# Altium schematic symbol library tobre-schematics.SchLib: 5 symbols
Pins are listed as number, name and electrical type; pins without a type are passive.

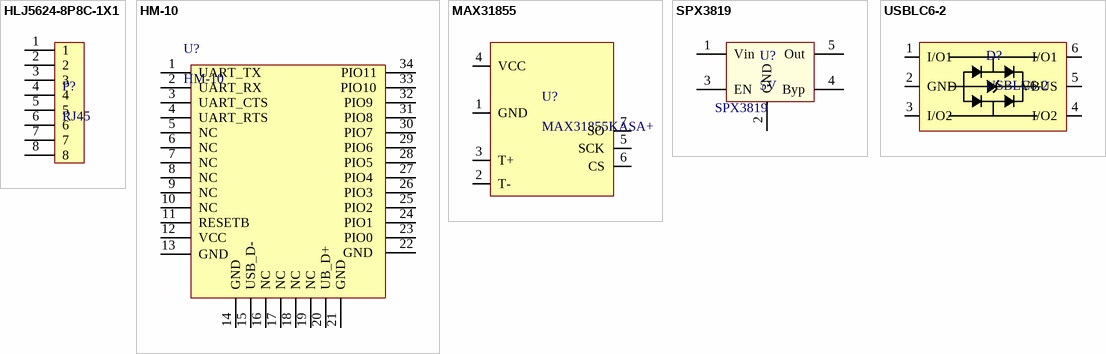
[diagram p0: symbols HLJ5624-8P8C-1X1 to USBLC6-2]

## HLJ5624-8P8C-1X1
designator P?, comment RJ45
URL: http://www.huilyn.com/detail_289_1051.html
footprint HLJ5624-8P8C-1X1 (RJ45 Modular Jack 8P8C)
pins: 1, 2, 3, 4, 5, 6, 7, 8

## HM-10
designator U?
footprint Bluetooth module (HC-XX, HM-XX)
pins: 1 UART_TX  "UART interface", 2 UART_RX  "UART interface", 3 UART_CTS  "UART interface", 4 UART_RTS  "UART interface", 5 NC  "NC", 6 NC  "NC", 7 NC  "NC", 8 NC  "NC", 9 NC  "NC", 10 NC  "NC", 11 RESETB  "Reset if low >100ms.", 12 VCC  "3.3V", 13 GND  "Ground", 14 GND  "Ground", 15 USB_D-  "USB interface", 16 NC  "NC", 17 NC  "NC", 18 NC  "NC", 19 NC  "NC", 20 UB_D+  "USB interface", 21 GND  "Ground", 22 GND  "Ground", 23 PIO0  "System Key", 24 PIO1  "System LED", 25 PIO2  "input/output pin", 26 PIO3  "input/output pin", 27 PIO4  "input/output pin", 28 PIO5  "input/output pin", 29 PIO6  "input/output pin", 30 PIO7  "input/output pin", 31 PIO8  "input/output pin", 32 PIO9  "input/output pin", 33 PIO10 "input/output pin", 34 PIO11 "input/output pin"

## MAX31855
designator U?, comment MAX31855KASA+
Thermocouple to Digital Converter; Manufacturer: Maxim Integrated; Description: IC CONV THERMOCOUPLE-DGTL SOIC; Input Type: Thermocouple (Multiple); Interface: SPI; Current - Supply: 900µA; Supplier 1: Digi-Key; Manufacturer Part Number: MAX31855KASA+; RoHS: RoHS Compliant; Category: Integrated Circuits (ICs); Stock 1: 3552; Pricing 1: 1=4.5, 10=4.275, 50=4.2458 (USD); Packaging: Tube; Type: Thermocouple to Digital Converter; Output Type: Digital; Operating Temperature: -40°C ~ 125°C; Mounting Type: Surface Mount; Package / Case: 8-SOIC (0.154", 3.90mm Width); Supplier Device Package: 8-SOIC N; ComponentLink1URL: http://datasheets.maximintegrated.com/en/ds/MAX31855.pdf; ComponentLink1Description: http://datasheets.maximintegrated.com/en/ds/MAX31855.pdf; Supplier Part Number 1: MAX31855KASA+-ND
footprint SO8
pins: 1 GND, 2 T-, 3 T+, 4 VCC, 5 SCK, 6 CS, 7 SO

## SPX3819
designator U?, comment 5V  Name: SPX3819
Datasheet: https://www.exar.com/common/content/document.ashx?id=615
footprint SOT23-5
pins: 1 Vin, 2 GND, 3 EN, 4 Byp, 5 Out

## USBLC6-2
designator D?
Datasheet: http://www.farnell.com/datasheets/1690354.pdf
footprint SOT23-6
pins: 1 I/O1, 2 GND, 3 I/O2, 4 I/O2, 5 VBUS, 6 I/O1